# Altium integrated library 4N26.IntLib: 1 symbol
Pins are listed as number, name and electrical type; pins without a type are passive.

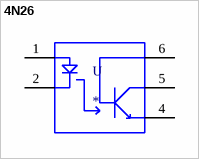
[diagram p0: symbol 4N26]

## 4N26
designator U
Optoisolator Transistor with Base Output 5000Vrms 1 Channel 6-DIP; MP: 4N26; MF: Vishay Semiconductor; SnapEDA_Link: https://www.snapeda.com/parts/4N26/Vishay%20Semiconductor%20Opto%20Division/view-part/1195025/?ref=snap; Availability: Unavailable; Value: *; Price: None; Package: DIP-6 Lite-On
footprint DIP762W50P254L712H480Q6
pins: 1 A, 2 C, 4 EMITTER, 5 COLLECTOR, 6 BASE